# EAGLE library part HDR-1X15 (library con-hdrs40)
HEADER CONNECTOR
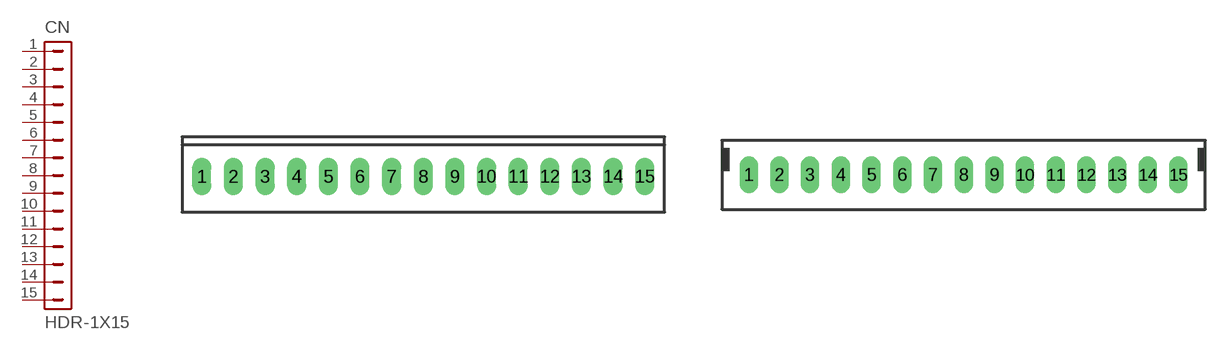
[diagram p9: symbol with the pads of MTA-100-15V; footprints MTA-100-15V, MTE-100-15V]

Designator prefix CN

## HDR-1X15-MTA-100  [MTA-100-15V]
1  1  pas
2  2  pas
3  3  pas
4  4  pas
5  5  pas
6  6  pas
7  7  pas
8  8  pas
9  9  pas
10  10  pas
11  11  pas
12  12  pas
13  13  pas
14  14  pas
15  15  pas

## HDR-1X15-MTE-100  [MTE-100-15V]
Pads as for MTA-100-15V

## HDR-1X15-MTE-100-L  [MTE-100-15VL]
Pads as for MTA-100-15V

## HDR-1X15-SIP-100  [SIP-100-15V]
Pads as for MTA-100-15V

## HDR-1X15-15-91-?  [15-91-15]
Pads as for MTA-100-15V

## HDR-1X15-70543-?  [70543-15]
Pads as for MTA-100-15V

## HDR-1X15-70553-?  [70553-15]
Pads as for MTA-100-15V

## Footprint MTA-100-15V (pad centres in mm)
AMP MTA Vertical .100" 15 pin
drill 1.016 long: 1 -17.78,0; 2 -15.24,0; 3 -12.7,0; 4 -10.16,0; 5 -7.62,0; 6 -5.08,0; 7 -2.54,0; 8 0,0; 9 2.54,0; 10 5.08,0; 11 7.62,0; 12 10.16,0; 13 12.7,0; 14 15.24,0; 15 17.78,0

## Footprint MTE-100-15V (pad centres in mm)
AMP MTE Vertical .100" 15 pin
drill 1.016 long: 1 -17.78,0; 2 -15.24,0; 3 -12.7,0; 4 -10.16,0; 5 -7.62,0; 6 -5.08,0; 7 -2.54,0; 8 0,0; 9 2.54,0; 10 5.08,0; 11 7.62,0; 12 10.16,0; 13 12.7,0; 14 15.24,0; 15 17.78,0

## Footprint MTE-100-15VL (pad centres in mm)
AMP MTE Vertical .100" 15 pin w/latch
drill 1.016 long: 1 -17.78,0; 2 -15.24,0; 3 -12.7,0; 4 -10.16,0; 5 -7.62,0; 6 -5.08,0; 7 -2.54,0; 8 0,0; 9 2.54,0; 10 5.08,0; 11 7.62,0; 12 10.16,0; 13 12.7,0; 14 15.24,0; 15 17.78,0

## Footprint SIP-100-15V (pad centres in mm)
SIP Header Vertical 100" 15 pin
drill 1.016 long: 1 -17.78,0; 2 -15.24,0; 3 -12.7,0; 4 -10.16,0; 5 -7.62,0; 6 -5.08,0; 7 -2.54,0; 8 0,0; 9 2.54,0; 10 5.08,0; 11 7.62,0; 12 10.16,0; 13 12.7,0; 14 15.24,0; 15 17.78,0

## Footprint 15-91-15 (pad centres in mm)
Molex C-Grid SL Connector right angle SMD, 15 pin
smd 1.651 x 5.334: 1 -17.78,-10.795; 2 -15.24,-10.795; 3 -12.7,-10.795; 4 -10.16,-10.795; 5 -7.62,-10.795; 6 -5.08,-10.795; 7 -2.54,-10.795; 8 0,-10.795; 9 2.54,-10.795; 10 5.08,-10.795; 11 7.62,-10.795; 12 10.16,-10.795; 13 12.7,-10.795; 14 15.24,-10.795; 15 17.78,-10.795
hole 3.404 at -19.177,0.838
hole 3.404 at 19.177,0.838

## Footprint 70543-15 (pad centres in mm)
Molex C-Grid SL Connector vertical, 15 pin
drill 1.016 long: 1 -17.78,0; 2 -15.24,0; 3 -12.7,0; 4 -10.16,0; 5 -7.62,0; 6 -5.08,0; 7 -2.54,0; 8 0,0; 9 2.54,0; 10 5.08,0; 11 7.62,0; 12 10.16,0; 13 12.7,0; 14 15.24,0; 15 17.78,0

## Footprint 70553-15 (pad centres in mm)
Molex C-Grid SL Connector right angle, 15 pin
drill 1.092 long: 1 -17.78,-7.62; 2 -15.24,-7.62; 3 -12.7,-7.62; 4 -10.16,-7.62; 5 -7.62,-7.62; 6 -5.08,-7.62; 7 -2.54,-7.62; 8 0,-7.62; 9 2.54,-7.62; 10 5.08,-7.62; 11 7.62,-7.62; 12 10.16,-7.62; 13 12.7,-7.62; 14 15.24,-7.62; 15 17.78,-7.62